# Altium footprint library Inductor.PcbLib: 40 footprints (part 3 of 3)
Each footprint in its own frame and in the unit in brackets; x right, y up, seen from the top. Pads: shape width x height; smd on the part's side, far side on the other; paste and mask are expansions set on the pad; w line width, h text height; cw(c..) or ccw(c..) is an arc to the next point about the centre after c.
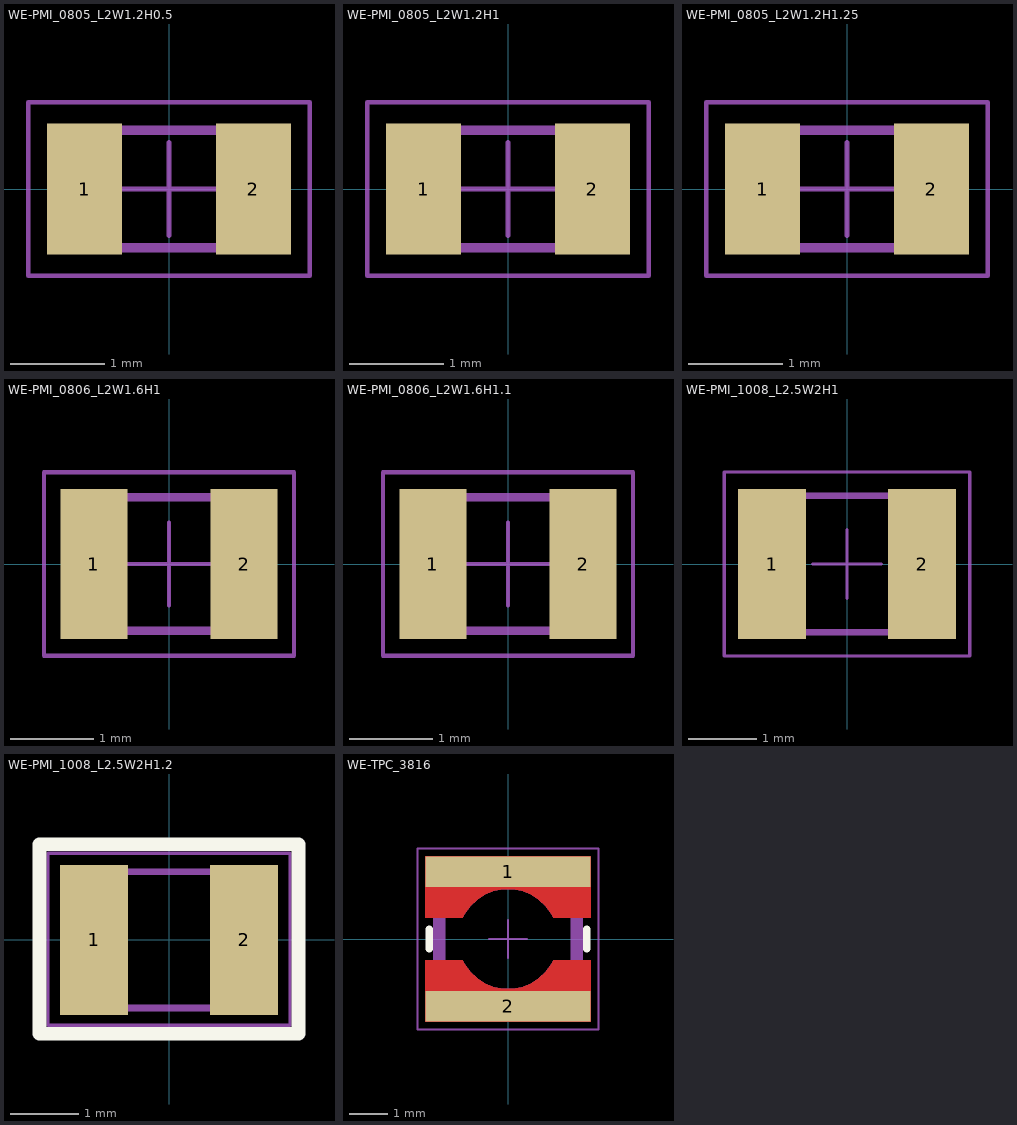
[diagram p2: the footprints below, top view; thin cyan lines are the x and y axes]

## WE-PMI_0805_L2W1.2H0.5 [mm] "Power Multilayer Inductor, body 2x1.25mm"
height 0.5
pads (2):
  rect 0.8x1.4 smd: 1(-0.9,0) 2(0.9,0)
Mechanical 2:
  lines w0.1: -1,-0.625 1,-0.625 1,0.625 -1,0.625 -1,-0.625
Top Courtyard:
  lines w0.05: -0.5,0 0.5,0 ; 0,-0.5 0,0.5 ; -1.5,-0.925 -1.5,0.925 1.5,0.925 1.5,-0.925 -1.5,-0.925
Top Designator:
  text ".Designator" at -3.499,-0.233 h0.7
Top Component Outline (Mech11):
  lines w0.1: -1,-0.625 -1,0.625 1,0.625 1,-0.625 -1,-0.625
3D body "74479774xxx_0805.stp": height 0.5, standoff 0, extent -1,-0.625 1,0.625

## WE-PMI_0805_L2W1.2H1 [mm] "Power Multilayer Inductor, body 2x1.2mm"
height 1
pads (2):
  rect 0.8x1.4 smd: 1(-0.9,0) 2(0.9,0)
Mechanical 2:
  lines w0.1: -1,-0.625 1,-0.625 1,0.625 -1,0.625 -1,-0.625
Top Courtyard:
  lines w0.05: -0.5,0 0.5,0 ; 0,-0.5 0,0.5 ; -1.5,-0.925 -1.5,0.925 1.5,0.925 1.5,-0.925 -1.5,-0.925
Top Designator:
  text ".Designator" at -3.499,-0.233 h0.7
Top Component Outline (Mech11):
  lines w0.1: -1,-0.625 -1,0.625 1,0.625 1,-0.625 -1,-0.625
3D body "0805_74479875xxx.stp": height 1, standoff 0, extent -1,-0.625 1,0.625

## WE-PMI_0805_L2W1.2H1.25 [mm] "Power Multilayer Inductor, body 2x1.2mm"
height 1.25
pads (2):
  rect 0.8x1.4 smd: 1(-0.9,0) 2(0.9,0)
Mechanical 2:
  lines w0.1: -1,-0.625 -1,0.625 1,0.625 1,-0.625 -1,-0.625
Top Courtyard:
  lines w0.05: -0.5,0 0.5,0 ; 0,-0.5 0,0.5 ; -1.5,-0.925 1.5,-0.925 1.5,0.925 -1.5,0.925 -1.5,-0.925
Top Designator:
  text ".Designator" at -3.499,-0.233 h0.7
Top Component Outline (Mech11):
  lines w0.1: -1,-0.625 1,-0.625 1,0.625 -1,0.625 -1,-0.625
3D body "74479777xxx_0805.stp": height 1.25, standoff 0, extent -1,-0.625 1,0.625

## WE-PMI_0806_L2W1.6H1 [mm] "Power Multilayer Inductor, body 2x1.6mm"
height 1
pads (2):
  rect 0.8x1.8 smd: 1(-0.9,0) 2(0.9,0)
Mechanical 2:
  lines w0.1: -1,-0.8 -1,0.8 1,0.8 1,-0.8 -1,-0.8
Top Courtyard:
  lines w0.05: -0.5,0 0.5,0 ; 0,-0.5 0,0.5 ; -1.5,-1.1 1.5,-1.1 1.5,1.1 -1.5,1.1 -1.5,-1.1
Top Designator:
  text ".Designator" at -3.499,-0.233 h0.7
Top Component Outline (Mech11):
  lines w0.1: -1,-0.8 1,-0.8 1,0.8 -1,0.8 -1,-0.8
3D body "74479776xxx_0806.stp": height 1, standoff 0, extent -1,-0.8 1,0.8

## WE-PMI_0806_L2W1.6H1.1 [mm] "Power Multilayer Inductor, body 2x1.6mm"
height 1.1
pads (2):
  rect 0.8x1.8 smd: 1(-0.9,0) 2(0.9,0)
Mechanical 2:
  lines w0.1: -1,-0.8 -1,0.8 1,0.8 1,-0.8 -1,-0.8
Top Courtyard:
  lines w0.05: -0.5,0 0.5,0 ; 0,-0.5 0,0.5 ; -1.5,-1.1 1.5,-1.1 1.5,1.1 -1.5,1.1 -1.5,-1.1
Top Component Outline (Mech11):
  lines w0.1: -1,-0.8 1,-0.8 1,0.8 -1,0.8 -1,-0.8
Mechanical 13:
  text ".Designator" at -3.499,-0.233 h0.7
3D body "74479778xxx_0806.stp": height 1.1, standoff 0, extent -1,-0.8 1,0.8

## WE-PMI_1008_L2.5W2H1 [mm] "Power Multilayer Inductor, body 2.5x2mm"
height 1
pads (2):
  rect 1x2.2 smd: 1(-1.1,0) 2(1.1,0)
Mechanical 13:
  rectangle: -1.25,-1 -0.75,1
  rectangle: 0.75,-1 1.25,1
  lines w0.1: -1.25,-1 -1.25,1 1.25,1 1.25,-1 -1.25,-1
  text ".Designator" at 0.167,-2.499 h0.5
Mechanical 15:
  lines w0.05: -0.5,0 0.5,0 ; 0,-0.5 0,0.5 ; -1.8,-1.35 1.8,-1.35 1.8,1.35 -1.8,1.35 -1.8,-1.35
3D body "74479787xxxA_1008.stp": height 1, standoff 0, extent -1.25,-1 1.25,1

## WE-PMI_1008_L2.5W2H1.2 [mm] "Power Multilayer Inductor, body 2.5x2mm"
height 1.2
pads (2):
  rect 1x2.2 smd: 1(-1.1,0) 2(1.1,0)
Top Overlay:
  lines w0.2: -1.9,-1.375 1.9,-1.375 1.9,1.4 -1.9,1.4 -1.9,-1.375
Mechanical 13:
  region: 1.25,1 0.892,1 0.892,-1 1.25,-1
  rectangle: -1.25,-1 -0.892,1
  lines w0.1: -1.25,-1 1.25,-1 1.25,1 -1.25,1 -1.25,-1
  text ".Designator" at -3.499,-0.233 h0.7
Mechanical 15:
  lines w0.05: -1.775,-1.25 -1.775,1.268 1.775,1.268 1.775,-1.25 -1.775,-1.25
3D body "74479889xxx_1008.stp": height 1.2, standoff 0, extent -1.25,-1 1.25,1

## WE-TPC_3816 [mm] "Power Inductor, SMD, 2-Leads, body 3.8x3.8mm"
height 1.65
pads (2):
  rect 4.3x0.8 smd paste-403.566 mask-403.566: 1(0,1.75) 2(0,-1.75)
Top Layer:
  region: 2.15,-0.55 2.15,-2.15 -2.15,-2.15 -2.15,-0.55 -1.178,-0.55 -1.121,-0.658 -0.977,-0.857 -0.799,-1.026 -0.592,-1.157 -0.364,-1.248 -0.123,-1.294 0.122,-1.294 0.363,-1.248 0.592,-1.158 0.798,-1.026 0.977,-0.858 1.121,-0.659 1.178,-0.55
  region: -2.15,0.55 -2.15,2.15 2.15,2.15 2.15,0.55 1.178,0.55 1.121,0.658 0.977,0.857 0.799,1.026 0.592,1.157 0.364,1.248 0.123,1.294 -0.122,1.294 -0.363,1.248 -0.592,1.158 -0.798,1.026 -0.977,0.858 -1.121,0.659 -1.178,0.55
Top Overlay:
  lines w0.2: -2.05,-0.25 -2.05,0.25 ; 2.05,-0.25 2.05,0.25
Mechanical 2:
  region: -1.9,0.55 -1.9,1.9 1.9,1.9 1.9,0.55 1.178,0.55 1.121,0.658 0.977,0.857 0.799,1.026 0.592,1.157 0.364,1.248 0.123,1.294 -0.122,1.294 -0.363,1.248 -0.592,1.158 -0.798,1.026 -0.977,0.858 -1.121,0.659 -1.178,0.55
Mechanical 13:
  rectangle: -1.9,-0.625 -1.625,0.846
  region: 1.9,0.625 1.625,0.625 1.625,-0.846 1.9,-0.846
  region: -1.9,0.55 -1.9,1.9 1.9,1.9 1.9,0.55 1.178,0.55 1.121,0.658 0.977,0.857 0.799,1.026 0.592,1.157 0.364,1.248 0.123,1.294 -0.122,1.294 -0.363,1.248 -0.592,1.158 -0.798,1.026 -0.977,0.858 -1.121,0.659 -1.178,0.55
  region: 1.9,-0.55 1.9,-1.9 -1.9,-1.9 -1.9,-0.55 -1.178,-0.55 -1.121,-0.658 -0.977,-0.857 -0.799,-1.026 -0.592,-1.157 -0.364,-1.248 -0.123,-1.294 0.122,-1.294 0.363,-1.248 0.592,-1.158 0.798,-1.026 0.977,-0.858 1.121,-0.659 1.178,-0.55
  lines w0.1: -1.9,-1.9 1.9,-1.9 1.9,1.9 -1.9,1.9 -1.9,-1.9
  text ".Designator" at -4.998,-0.333 h1
Mechanical 15:
  lines w0.05: -0.5,0 0.5,0 ; 0,-0.5 0,0.5 ; -2.35,-2.35 2.35,-2.35 2.35,2.35 -2.35,2.35 -2.35,-2.35
3D body "744031xxx.stp": height 1.65, standoff 0, extent -1.9,-1.9 1.9,1.9